# Altium schematic symbol library jlcpcb_2025_04_capacitors_extended_1812.schlib: 342 symbols (part 6 of 7)
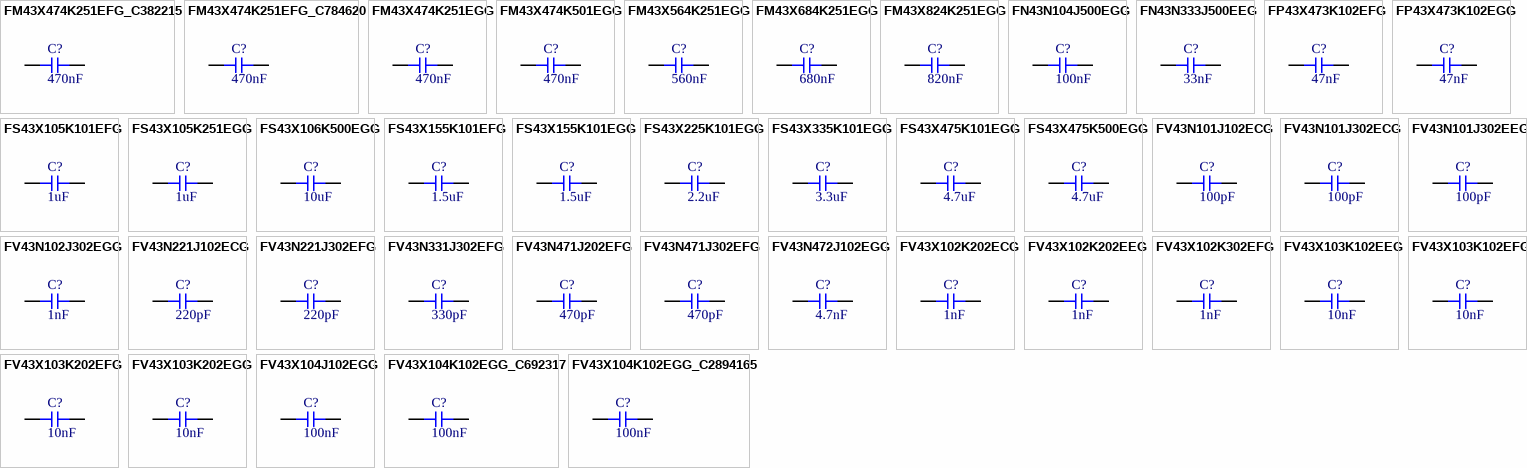
[diagram p13: symbols FM43X474K251EFG_C382215 to FV43X104K102EGG_C2894165]

## FS43X105K251EGG
designator C?  Capacitance: 1uF  (hidden comment: *)
Capacitor, Ceramic (MLCC), 1uF, ±10%, 250V, X7R, ±10%, SMD 1812; Manufacturer: PSA(Prosperity Dielectrics); Manufacturer Part Number: FS43X105K251EGG; Package Size: 1812; JLCPCB Basic Part: No; JLCPCB Part Number: C381468; Supplier 1: LCSC; Category: Capacitors - MLCC; Supplier Part Number 1: C381468; Tolerance: ±10%; Voltage Rating: 250V; Temperature Coefficient: X7R; RoHS: Yes; ComponentLink1Description: Datasheet; ComponentLink1URL: https://wmsc.lcsc.com/wmsc/upload/file/pdf/v2/lcsc/2304140030_PSA-Prosperity-Dielectrics-FS43X105K251EGG_C381468.pdf; ComponentLink2Description: JLCPCB Part URL; ComponentLink2URL: https://jlcpcb.com/partdetail/C381468; ComponentLink3Description: LCSC Part URL; ComponentLink3URL: https://lcsc.com/product-detail/Multilayer-Ceramic-Capacitors-MLCC---SMD-SMT_PSAProsperity-Dielectrics-PSAProsperity-Dielectrics-FS43X105K251EGG_C381468.html
footprint CAP-1812 (1812 (4532M) Capacitor)
pins: 1, 2

## FS43X106K500EGG
designator C?  Capacitance: 10uF  (hidden comment: *)
Capacitor, Ceramic (MLCC), 10uF, ±10%, 50V, ±10%, SMD 1812; Manufacturer: PSA(Prosperity Dielectrics); Manufacturer Part Number: FS43X106K500EGG; Package Size: 1812; JLCPCB Basic Part: No; JLCPCB Part Number: C1021609; Supplier 1: LCSC; Category: Capacitors - MLCC; Supplier Part Number 1: C1021609; Tolerance: ±10%; Voltage Rating: 50V; RoHS: Yes; ComponentLink1Description: Datasheet; ComponentLink1URL: https://wmsc.lcsc.com/wmsc/upload/file/pdf/v2/lcsc/2304140030_PSA-Prosperity-Dielectrics-FS43X106K500EGG_C1021609.pdf; ComponentLink2Description: JLCPCB Part URL; ComponentLink2URL: https://jlcpcb.com/partdetail/C1021609; ComponentLink3Description: LCSC Part URL; ComponentLink3URL: https://lcsc.com/product-detail/Multilayer-Ceramic-Capacitors-MLCC---SMD-SMT_PSAProsperity-Dielectrics-PSAProsperity-Dielectrics-FS43X106K500EGG_C1021609.html
footprint CAP-1812 (1812 (4532M) Capacitor)
pins: 1, 2

## FS43X155K101EFG
designator C?  Capacitance: 1.5uF  (hidden comment: *)
Capacitor, Ceramic (MLCC), 1.5uF, ±10%, 100V, X7R, ±10%, SMD 1812; Manufacturer: PSA(Prosperity Dielectrics); Manufacturer Part Number: FS43X155K101EFG; Package Size: 1812; JLCPCB Basic Part: No; JLCPCB Part Number: C146191; Supplier 1: LCSC; Category: Capacitors - MLCC; Supplier Part Number 1: C146191; Tolerance: ±10%; Voltage Rating: 100V; Temperature Coefficient: X7R; RoHS: Yes; ComponentLink1Description: Datasheet; ComponentLink1URL: https://wmsc.lcsc.com/wmsc/upload/file/pdf/v2/lcsc/2304140030_PSA-Prosperity-Dielectrics-FS43X155K101EFG_C146191.pdf; ComponentLink2Description: JLCPCB Part URL; ComponentLink2URL: https://jlcpcb.com/partdetail/C146191; ComponentLink3Description: LCSC Part URL; ComponentLink3URL: https://lcsc.com/product-detail/Multilayer-Ceramic-Capacitors-MLCC---SMD-SMT_PSAProsperity-Dielectrics-PSAProsperity-Dielectrics-FS43X155K101EFG_C146191.html
footprint CAP-1812 (1812 (4532M) Capacitor)
pins: 1, 2

## FS43X155K101EGG
designator C?  Capacitance: 1.5uF  (hidden comment: *)
Capacitor, Ceramic (MLCC), 1.5uF, ±10%, 100V, ±10%, SMD 1812; Manufacturer: PSA(Prosperity Dielectrics); Manufacturer Part Number: FS43X155K101EGG; Package Size: 1812; JLCPCB Basic Part: No; JLCPCB Part Number: C1021608; Supplier 1: LCSC; Category: Capacitors - MLCC; Supplier Part Number 1: C1021608; Tolerance: ±10%; Voltage Rating: 100V; RoHS: Yes; ComponentLink1Description: Datasheet; ComponentLink1URL: https://wmsc.lcsc.com/wmsc/upload/file/pdf/v2/lcsc/2304140030_PSA-Prosperity-Dielectrics-FS43X155K101EGG_C1021608.pdf; ComponentLink2Description: JLCPCB Part URL; ComponentLink2URL: https://jlcpcb.com/partdetail/C1021608; ComponentLink3Description: LCSC Part URL; ComponentLink3URL: https://lcsc.com/product-detail/Multilayer-Ceramic-Capacitors-MLCC---SMD-SMT_PSAProsperity-Dielectrics-PSAProsperity-Dielectrics-FS43X155K101EGG_C1021608.html
footprint CAP-1812 (1812 (4532M) Capacitor)
pins: 1, 2

## FS43X225K101EGG
designator C?  Capacitance: 2.2uF  (hidden comment: *)
Capacitor, Ceramic (MLCC), 2.2uF, ±10%, 100V, X7R, ±10%, SMD 1812; Manufacturer: PSA(Prosperity Dielectrics); Manufacturer Part Number: FS43X225K101EGG; Package Size: 1812; JLCPCB Basic Part: No; JLCPCB Part Number: C382210; Supplier 1: LCSC; Category: Capacitors - MLCC; Supplier Part Number 1: C382210; Tolerance: ±10%; Voltage Rating: 100V; Temperature Coefficient: X7R; RoHS: Yes; ComponentLink1Description: Datasheet; ComponentLink1URL: https://wmsc.lcsc.com/wmsc/upload/file/pdf/v2/lcsc/2304140030_PSA-Prosperity-Dielectrics-FS43X225K101EGG_C382210.pdf; ComponentLink2Description: JLCPCB Part URL; ComponentLink2URL: https://jlcpcb.com/partdetail/C382210; ComponentLink3Description: LCSC Part URL; ComponentLink3URL: https://lcsc.com/product-detail/Multilayer-Ceramic-Capacitors-MLCC---SMD-SMT_PSAProsperity-Dielectrics-PSAProsperity-Dielectrics-FS43X225K101EGG_C382210.html
footprint CAP-1812 (1812 (4532M) Capacitor)
pins: 1, 2

## FS43X335K101EGG
designator C?  Capacitance: 3.3uF  (hidden comment: *)
Capacitor, Ceramic (MLCC), 3.3uF, ±10%, 100V, ±10%, SMD 1812; Manufacturer: PSA(Prosperity Dielectrics); Manufacturer Part Number: FS43X335K101EGG; Package Size: 1812; JLCPCB Basic Part: No; JLCPCB Part Number: C1021607; Supplier 1: LCSC; Category: Capacitors - MLCC; Supplier Part Number 1: C1021607; Tolerance: ±10%; Voltage Rating: 100V; RoHS: Yes; ComponentLink1Description: Datasheet; ComponentLink1URL: https://wmsc.lcsc.com/wmsc/upload/file/pdf/v2/lcsc/2304140030_PSA-Prosperity-Dielectrics-FS43X335K101EGG_C1021607.pdf; ComponentLink2Description: JLCPCB Part URL; ComponentLink2URL: https://jlcpcb.com/partdetail/C1021607; ComponentLink3Description: LCSC Part URL; ComponentLink3URL: https://lcsc.com/product-detail/Multilayer-Ceramic-Capacitors-MLCC---SMD-SMT_PSAProsperity-Dielectrics-PSAProsperity-Dielectrics-FS43X335K101EGG_C1021607.html
footprint CAP-1812 (1812 (4532M) Capacitor)
pins: 1, 2

## FS43X475K101EGG
designator C?  Capacitance: 4.7uF  (hidden comment: *)
Capacitor, Ceramic (MLCC), 4.7uF, ±10%, 100V, X7R, ±10%, SMD 1812; Manufacturer: PSA(Prosperity Dielectrics); Manufacturer Part Number: FS43X475K101EGG; Package Size: 1812; JLCPCB Basic Part: No; JLCPCB Part Number: C784101; Supplier 1: LCSC; Category: Capacitors - MLCC; Supplier Part Number 1: C784101; Tolerance: ±10%; Voltage Rating: 100V; Temperature Coefficient: X7R; RoHS: Yes; ComponentLink1Description: Datasheet; ComponentLink1URL: https://wmsc.lcsc.com/wmsc/upload/file/pdf/v2/lcsc/2304140030_PSA-Prosperity-Dielectrics-FS43X475K101EGG_C784101.pdf; ComponentLink2Description: JLCPCB Part URL; ComponentLink2URL: https://jlcpcb.com/partdetail/C784101; ComponentLink3Description: LCSC Part URL; ComponentLink3URL: https://lcsc.com/product-detail/Multilayer-Ceramic-Capacitors-MLCC---SMD-SMT_PSAProsperity-Dielectrics-PSAProsperity-Dielectrics-FS43X475K101EGG_C784101.html
footprint CAP-1812 (1812 (4532M) Capacitor)
pins: 1, 2

## FS43X475K500EGG
designator C?  Capacitance: 4.7uF  (hidden comment: *)
Capacitor, Ceramic (MLCC), 4.7uF, 50V, X7R, SMD 1812; Manufacturer: PSA(Prosperity Dielectrics); Manufacturer Part Number: FS43X475K500EGG; Package Size: 1812; JLCPCB Basic Part: No; JLCPCB Part Number: C2915696; Supplier 1: LCSC; Category: Capacitors - MLCC; Supplier Part Number 1: C2915696; Voltage Rating: 50V; Temperature Coefficient: X7R; RoHS: Yes; ComponentLink1Description: Datasheet; ComponentLink1URL: https://wmsc.lcsc.com/wmsc/upload/file/pdf/v2/lcsc/2111161830_PSA-Prosperity-Dielectrics-FS43X475K500EGG_C2915696.pdf; ComponentLink2Description: JLCPCB Part URL; ComponentLink2URL: https://jlcpcb.com/partdetail/C2915696; ComponentLink3Description: LCSC Part URL; ComponentLink3URL: https://lcsc.com/product-detail/Multilayer-Ceramic-Capacitors-MLCC---SMD-SMT_PSAProsperity-Dielectrics-PSAProsperity-Dielectrics-FS43X475K500EGG_C2915696.html
footprint CAP-1812 (1812 (4532M) Capacitor)
pins: 1, 2

## FV43N101J102ECG
designator C?  Capacitance: 100pF  (hidden comment: *)
Capacitor, Ceramic (MLCC), 100pF, 1kV, C0G, SMD 1812; Manufacturer: PSA(Prosperity Dielectrics); Manufacturer Part Number: FV43N101J102ECG; Package Size: 1812; JLCPCB Basic Part: No; JLCPCB Part Number: C2847456; Supplier 1: LCSC; Category: Capacitors - MLCC; Supplier Part Number 1: C2847456; Voltage Rating: 1kV; Temperature Coefficient: C0G; RoHS: Yes; ComponentLink1Description: Datasheet; ComponentLink1URL: https://wmsc.lcsc.com/wmsc/upload/file/pdf/v2/lcsc/2108142230_PSA-Prosperity-Dielectrics-FV43N101J102ECG_C2847456.pdf; ComponentLink2Description: JLCPCB Part URL; ComponentLink2URL: https://jlcpcb.com/partdetail/C2847456; ComponentLink3Description: LCSC Part URL; ComponentLink3URL: https://lcsc.com/product-detail/Multilayer-Ceramic-Capacitors-MLCC---SMD-SMT_PSAProsperity-Dielectrics-PSAProsperity-Dielectrics-FV43N101J102ECG_C2847456.html
footprint CAP-1812 (1812 (4532M) Capacitor)
pins: 1, 2

## FV43N101J302ECG
designator C?  Capacitance: 100pF  (hidden comment: *)
Capacitor, Ceramic (MLCC), 100pF, 3kV, SMD 1812; Manufacturer: PSA(Prosperity Dielectrics); Manufacturer Part Number: FV43N101J302ECG; Package Size: 1812; JLCPCB Basic Part: No; JLCPCB Part Number: C2843410; Supplier 1: LCSC; Category: Capacitors - MLCC; Supplier Part Number 1: C2843410; Voltage Rating: 3kV; RoHS: Yes; ComponentLink1Description: Datasheet; ComponentLink1URL: https://wmsc.lcsc.com/wmsc/upload/file/pdf/v2/lcsc/2108072030_PSA-Prosperity-Dielectrics-FV43N101J302ECG_C2843410.pdf; ComponentLink2Description: JLCPCB Part URL; ComponentLink2URL: https://jlcpcb.com/partdetail/C2843410; ComponentLink3Description: LCSC Part URL; ComponentLink3URL: https://lcsc.com/product-detail/Multilayer-Ceramic-Capacitors-MLCC---SMD-SMT_PSAProsperity-Dielectrics-PSAProsperity-Dielectrics-FV43N101J302ECG_C2843410.html
footprint CAP-1812 (1812 (4532M) Capacitor)
pins: 1, 2

## FV43N101J302EEG
designator C?  Capacitance: 100pF  (hidden comment: *)
Capacitor, Ceramic (MLCC), 100pF, ±5%, 3kV, ±5%, SMD 1812; Manufacturer: PSA(Prosperity Dielectrics); Manufacturer Part Number: FV43N101J302EEG; Package Size: 1812; JLCPCB Basic Part: No; JLCPCB Part Number: C784412; Supplier 1: LCSC; Category: Capacitors - MLCC; Supplier Part Number 1: C784412; Tolerance: ±5%; Voltage Rating: 3kV; RoHS: Yes; ComponentLink1Description: Datasheet; ComponentLink1URL: https://wmsc.lcsc.com/wmsc/upload/file/pdf/v2/lcsc/2304140030_PSA-Prosperity-Dielectrics-FV43N101J302EEG_C784412.pdf; ComponentLink2Description: JLCPCB Part URL; ComponentLink2URL: https://jlcpcb.com/partdetail/C784412; ComponentLink3Description: LCSC Part URL; ComponentLink3URL: https://lcsc.com/product-detail/Multilayer-Ceramic-Capacitors-MLCC---SMD-SMT_PSAProsperity-Dielectrics-PSAProsperity-Dielectrics-FV43N101J302EEG_C784412.html
footprint CAP-1812 (1812 (4532M) Capacitor)
pins: 1, 2

## FV43N102J302EGG
designator C?  Capacitance: 1nF  (hidden comment: *)
Capacitor, Ceramic (MLCC), 1nF, ±5%, 3kV, C0G, ±5%, SMD 1812; Manufacturer: PSA(Prosperity Dielectrics); Manufacturer Part Number: FV43N102J302EGG; Package Size: 1812; JLCPCB Basic Part: No; JLCPCB Part Number: C692320; Supplier 1: LCSC; Category: Capacitors - MLCC; Supplier Part Number 1: C692320; Tolerance: ±5%; Voltage Rating: 3kV; Temperature Coefficient: C0G; RoHS: Yes; ComponentLink1Description: Datasheet; ComponentLink1URL: https://wmsc.lcsc.com/wmsc/upload/file/pdf/v2/lcsc/2304140030_PSA-Prosperity-Dielectrics-FV43N102J302EGG_C692320.pdf; ComponentLink2Description: JLCPCB Part URL; ComponentLink2URL: https://jlcpcb.com/partdetail/C692320; ComponentLink3Description: LCSC Part URL; ComponentLink3URL: https://lcsc.com/product-detail/Multilayer-Ceramic-Capacitors-MLCC---SMD-SMT_PSAProsperity-Dielectrics-PSAProsperity-Dielectrics-FV43N102J302EGG_C692320.html
footprint CAP-1812 (1812 (4532M) Capacitor)
pins: 1, 2

## FV43N221J102ECG
designator C?  Capacitance: 220pF  (hidden comment: *)
Capacitor, Ceramic (MLCC), 220pF, ±5%, 1kV, C0G, ±5%, SMD 1812; Manufacturer: PSA(Prosperity Dielectrics); Manufacturer Part Number: FV43N221J102ECG; Package Size: 1812; JLCPCB Basic Part: No; JLCPCB Part Number: C2905791; Supplier 1: LCSC; Category: Capacitors - MLCC; Supplier Part Number 1: C2905791; Tolerance: ±5%; Voltage Rating: 1kV; Temperature Coefficient: C0G; RoHS: Yes; ComponentLink1Description: Datasheet; ComponentLink1URL: https://wmsc.lcsc.com/wmsc/upload/file/pdf/v2/lcsc/2110190930_PSA-Prosperity-Dielectrics-FV43N221J102ECG_C2905791.pdf; ComponentLink2Description: JLCPCB Part URL; ComponentLink2URL: https://jlcpcb.com/partdetail/C2905791; ComponentLink3Description: LCSC Part URL; ComponentLink3URL: https://lcsc.com/product-detail/Multilayer-Ceramic-Capacitors-MLCC---SMD-SMT_PSAProsperity-Dielectrics-PSAProsperity-Dielectrics-FV43N221J102ECG_C2905791.html
footprint CAP-1812 (1812 (4532M) Capacitor)
pins: 1, 2

## FV43N221J302EFG
designator C?  Capacitance: 220pF  (hidden comment: *)
Capacitor, Ceramic (MLCC), 220pF, ±5%, 3kV, ±5%, SMD 1812; Manufacturer: PSA(Prosperity Dielectrics); Manufacturer Part Number: FV43N221J302EFG; Package Size: 1812; JLCPCB Basic Part: No; JLCPCB Part Number: C1884493; Supplier 1: LCSC; Category: Capacitors - MLCC; Supplier Part Number 1: C1884493; Tolerance: ±5%; Voltage Rating: 3kV; RoHS: Yes; ComponentLink1Description: Datasheet; ComponentLink1URL: https://wmsc.lcsc.com/wmsc/upload/file/pdf/v2/lcsc/2304140030_PSA-Prosperity-Dielectrics-FV43N221J302EFG_C1884493.pdf; ComponentLink2Description: JLCPCB Part URL; ComponentLink2URL: https://jlcpcb.com/partdetail/C1884493; ComponentLink3Description: LCSC Part URL; ComponentLink3URL: https://lcsc.com/product-detail/Multilayer-Ceramic-Capacitors-MLCC---SMD-SMT_PSAProsperity-Dielectrics-PSAProsperity-Dielectrics-FV43N221J302EFG_C1884493.html
footprint CAP-1812 (1812 (4532M) Capacitor)
pins: 1, 2

## FV43N331J302EFG
designator C?  Capacitance: 330pF  (hidden comment: *)
Capacitor, Ceramic (MLCC), 330pF, ±5%, 3kV, C0G, ±5%, SMD 1812; Manufacturer: PSA(Prosperity Dielectrics); Manufacturer Part Number: FV43N331J302EFG; Package Size: 1812; JLCPCB Basic Part: No; JLCPCB Part Number: C2915734; Supplier 1: LCSC; Category: Capacitors - MLCC; Supplier Part Number 1: C2915734; Tolerance: ±5%; Voltage Rating: 3kV; Temperature Coefficient: C0G; RoHS: Yes; ComponentLink1Description: Datasheet; ComponentLink1URL: https://wmsc.lcsc.com/wmsc/upload/file/pdf/v2/lcsc/2111161830_PSA-Prosperity-Dielectrics-FV43N331J302EFG_C2915734.pdf; ComponentLink2Description: JLCPCB Part URL; ComponentLink2URL: https://jlcpcb.com/partdetail/C2915734; ComponentLink3Description: LCSC Part URL; ComponentLink3URL: https://lcsc.com/product-detail/Multilayer-Ceramic-Capacitors-MLCC---SMD-SMT_PSAProsperity-Dielectrics-PSAProsperity-Dielectrics-FV43N331J302EFG_C2915734.html
footprint CAP-1812 (1812 (4532M) Capacitor)
pins: 1, 2

## FV43N471J202EFG
designator C?  Capacitance: 470pF  (hidden comment: *)
Capacitor, Ceramic (MLCC), 470pF, ±5%, 2kV, C0G, ±5%, SMD 1812; Manufacturer: PSA(Prosperity Dielectrics); Manufacturer Part Number: FV43N471J202EFG; Package Size: 1812; JLCPCB Basic Part: No; JLCPCB Part Number: C2915735; Supplier 1: LCSC; Category: Capacitors - MLCC; Supplier Part Number 1: C2915735; Tolerance: ±5%; Voltage Rating: 2kV; Temperature Coefficient: C0G; RoHS: Yes; ComponentLink1Description: Datasheet; ComponentLink1URL: https://wmsc.lcsc.com/wmsc/upload/file/pdf/v2/lcsc/2111161830_PSA-Prosperity-Dielectrics-FV43N471J202EFG_C2915735.pdf; ComponentLink2Description: JLCPCB Part URL; ComponentLink2URL: https://jlcpcb.com/partdetail/C2915735; ComponentLink3Description: LCSC Part URL; ComponentLink3URL: https://lcsc.com/product-detail/Multilayer-Ceramic-Capacitors-MLCC---SMD-SMT_PSAProsperity-Dielectrics-PSAProsperity-Dielectrics-FV43N471J202EFG_C2915735.html
footprint CAP-1812 (1812 (4532M) Capacitor)
pins: 1, 2

## FV43N471J302EFG
designator C?  Capacitance: 470pF  (hidden comment: *)
Capacitor, Ceramic (MLCC), 470pF, ±5%, 3kV, NP0, ±5%, SMD 1812; Manufacturer: PSA(Prosperity Dielectrics); Manufacturer Part Number: FV43N471J302EFG; Package Size: 1812; JLCPCB Basic Part: No; JLCPCB Part Number: C692319; Supplier 1: LCSC; Category: Capacitors - MLCC; Supplier Part Number 1: C692319; Tolerance: ±5%; Voltage Rating: 3kV; Temperature Coefficient: NP0; RoHS: Yes; ComponentLink1Description: Datasheet; ComponentLink1URL: https://wmsc.lcsc.com/wmsc/upload/file/pdf/v2/lcsc/2304140030_PSA-Prosperity-Dielectrics-FV43N471J302EFG_C692319.pdf; ComponentLink2Description: JLCPCB Part URL; ComponentLink2URL: https://jlcpcb.com/partdetail/C692319; ComponentLink3Description: LCSC Part URL; ComponentLink3URL: https://lcsc.com/product-detail/Multilayer-Ceramic-Capacitors-MLCC---SMD-SMT_PSAProsperity-Dielectrics-PSAProsperity-Dielectrics-FV43N471J302EFG_C692319.html
footprint CAP-1812 (1812 (4532M) Capacitor)
pins: 1, 2

## FV43N472J102EGG
designator C?  Capacitance: 4.7nF  (hidden comment: *)
Capacitor, Ceramic (MLCC), 4.7nF, ±5%, 1kV, NP0, ±5%, SMD 1812; Manufacturer: PSA(Prosperity Dielectrics); Manufacturer Part Number: FV43N472J102EGG; Package Size: 1812; JLCPCB Basic Part: No; JLCPCB Part Number: C692321; Supplier 1: LCSC; Category: Capacitors - MLCC; Supplier Part Number 1: C692321; Tolerance: ±5%; Voltage Rating: 1kV; Temperature Coefficient: NP0; RoHS: Yes; ComponentLink1Description: Datasheet; ComponentLink1URL: https://wmsc.lcsc.com/wmsc/upload/file/pdf/v2/lcsc/2304140030_PSA-Prosperity-Dielectrics-FV43N472J102EGG_C692321.pdf; ComponentLink2Description: JLCPCB Part URL; ComponentLink2URL: https://jlcpcb.com/partdetail/C692321; ComponentLink3Description: LCSC Part URL; ComponentLink3URL: https://lcsc.com/product-detail/Multilayer-Ceramic-Capacitors-MLCC---SMD-SMT_PSAProsperity-Dielectrics-PSAProsperity-Dielectrics-FV43N472J102EGG_C692321.html
footprint CAP-1812 (1812 (4532M) Capacitor)
pins: 1, 2

## FV43X102K202ECG
designator C?  Capacitance: 1nF  (hidden comment: *)
Capacitor, Ceramic (MLCC), 1nF, 2kV, SMD 1812; Manufacturer: PSA(Prosperity Dielectrics); Manufacturer Part Number: FV43X102K202ECG; Package Size: 1812; JLCPCB Basic Part: No; JLCPCB Part Number: C2843412; Supplier 1: LCSC; Category: Capacitors - MLCC; Supplier Part Number 1: C2843412; Voltage Rating: 2kV; RoHS: Yes; ComponentLink1Description: Datasheet; ComponentLink1URL: https://wmsc.lcsc.com/wmsc/upload/file/pdf/v2/lcsc/2108072030_PSA-Prosperity-Dielectrics-FV43X102K202ECG_C2843412.pdf; ComponentLink2Description: JLCPCB Part URL; ComponentLink2URL: https://jlcpcb.com/partdetail/C2843412; ComponentLink3Description: LCSC Part URL; ComponentLink3URL: https://lcsc.com/product-detail/Multilayer-Ceramic-Capacitors-MLCC---SMD-SMT_PSAProsperity-Dielectrics-PSAProsperity-Dielectrics-FV43X102K202ECG_C2843412.html
footprint CAP-1812 (1812 (4532M) Capacitor)
pins: 1, 2

## FV43X102K202EEG
designator C?  Capacitance: 1nF  (hidden comment: *)
Capacitor, Ceramic (MLCC), 1nF, ±10%, 2kV, X7R, ±10%, SMD 1812; Manufacturer: PSA(Prosperity Dielectrics); Manufacturer Part Number: FV43X102K202EEG; Package Size: 1812; JLCPCB Basic Part: No; JLCPCB Part Number: C571507; Supplier 1: LCSC; Category: Capacitors - MLCC; Supplier Part Number 1: C571507; Tolerance: ±10%; Voltage Rating: 2kV; Temperature Coefficient: X7R; RoHS: Yes; ComponentLink1Description: Datasheet; ComponentLink1URL: https://wmsc.lcsc.com/wmsc/upload/file/pdf/v2/lcsc/2304140030_PSA-Prosperity-Dielectrics-FV43X102K202EEG_C571507.pdf; ComponentLink2Description: JLCPCB Part URL; ComponentLink2URL: https://jlcpcb.com/partdetail/C571507; ComponentLink3Description: LCSC Part URL; ComponentLink3URL: https://lcsc.com/product-detail/Multilayer-Ceramic-Capacitors-MLCC---SMD-SMT_PSAProsperity-Dielectrics-PSAProsperity-Dielectrics-FV43X102K202EEG_C571507.html
footprint CAP-1812 (1812 (4532M) Capacitor)
pins: 1, 2

## FV43X102K302EFG
designator C?  Capacitance: 1nF  (hidden comment: *)
Capacitor, Ceramic (MLCC), 1nF, ±10%, 3kV, X7R, ±10%, SMD 1812; Manufacturer: PSA(Prosperity Dielectrics); Manufacturer Part Number: FV43X102K302EFG; Package Size: 1812; JLCPCB Basic Part: No; JLCPCB Part Number: C692296; Supplier 1: LCSC; Category: Capacitors - MLCC; Supplier Part Number 1: C692296; Tolerance: ±10%; Voltage Rating: 3kV; Temperature Coefficient: X7R; RoHS: Yes; ComponentLink1Description: Datasheet; ComponentLink1URL: https://wmsc.lcsc.com/wmsc/upload/file/pdf/v2/lcsc/2304140030_PSA-Prosperity-Dielectrics-FV43X102K302EFG_C692296.pdf; ComponentLink2Description: JLCPCB Part URL; ComponentLink2URL: https://jlcpcb.com/partdetail/C692296; ComponentLink3Description: LCSC Part URL; ComponentLink3URL: https://lcsc.com/product-detail/Multilayer-Ceramic-Capacitors-MLCC---SMD-SMT_PSAProsperity-Dielectrics-PSAProsperity-Dielectrics-FV43X102K302EFG_C692296.html
footprint CAP-1812 (1812 (4532M) Capacitor)
pins: 1, 2

## FV43X103K102EEG
designator C?  Capacitance: 10nF  (hidden comment: *)
Capacitor, Ceramic (MLCC), 10nF, ±10%, 1kV, ±10%, SMD 1812; Manufacturer: PSA(Prosperity Dielectrics); Manufacturer Part Number: FV43X103K102EEG; Package Size: 1812; JLCPCB Basic Part: No; JLCPCB Part Number: C1884494; Supplier 1: LCSC; Category: Capacitors - MLCC; Supplier Part Number 1: C1884494; Tolerance: ±10%; Voltage Rating: 1kV; RoHS: Yes; ComponentLink1Description: Datasheet; ComponentLink1URL: https://wmsc.lcsc.com/wmsc/upload/file/pdf/v2/lcsc/2201280500_PSA-Prosperity-Dielectrics-FV43X103K102EEG_C1884494.pdf; ComponentLink2Description: JLCPCB Part URL; ComponentLink2URL: https://jlcpcb.com/partdetail/C1884494; ComponentLink3Description: LCSC Part URL; ComponentLink3URL: https://lcsc.com/product-detail/Multilayer-Ceramic-Capacitors-MLCC---SMD-SMT_PSAProsperity-Dielectrics-PSAProsperity-Dielectrics-FV43X103K102EEG_C1884494.html
footprint CAP-1812 (1812 (4532M) Capacitor)
pins: 1, 2

## FV43X103K102EFG
designator C?  Capacitance: 10nF  (hidden comment: *)
Capacitor, Ceramic (MLCC), 10nF, ±10%, 1kV, X7R, ±10%, SMD 1812; Manufacturer: PSA(Prosperity Dielectrics); Manufacturer Part Number: FV43X103K102EFG; Package Size: 1812; JLCPCB Basic Part: No; JLCPCB Part Number: C394164; Supplier 1: LCSC; Category: Capacitors - MLCC; Supplier Part Number 1: C394164; Tolerance: ±10%; Voltage Rating: 1kV; Temperature Coefficient: X7R; RoHS: Yes; ComponentLink1Description: Datasheet; ComponentLink1URL: https://wmsc.lcsc.com/wmsc/upload/file/pdf/v2/lcsc/2304140030_PSA-Prosperity-Dielectrics-FV43X103K102EFG_C394164.pdf; ComponentLink2Description: JLCPCB Part URL; ComponentLink2URL: https://jlcpcb.com/partdetail/C394164; ComponentLink3Description: LCSC Part URL; ComponentLink3URL: https://lcsc.com/product-detail/Multilayer-Ceramic-Capacitors-MLCC---SMD-SMT_PSAProsperity-Dielectrics-PSAProsperity-Dielectrics-FV43X103K102EFG_C394164.html
footprint CAP-1812 (1812 (4532M) Capacitor)
pins: 1, 2

## FV43X103K202EFG
designator C?  Capacitance: 10nF  (hidden comment: *)
Capacitor, Ceramic (MLCC), 10nF, ±10%, 2kV, ±10%, SMD 1812; Manufacturer: PSA(Prosperity Dielectrics); Manufacturer Part Number: FV43X103K202EFG; Package Size: 1812; JLCPCB Basic Part: No; JLCPCB Part Number: C2843413; Supplier 1: LCSC; Category: Capacitors - MLCC; Supplier Part Number 1: C2843413; Tolerance: ±10%; Voltage Rating: 2kV; RoHS: Yes; ComponentLink1Description: Datasheet; ComponentLink1URL: https://wmsc.lcsc.com/wmsc/upload/file/pdf/v2/lcsc/2108072030_PSA-Prosperity-Dielectrics-FV43X103K202EFG_C2843413.pdf; ComponentLink2Description: JLCPCB Part URL; ComponentLink2URL: https://jlcpcb.com/partdetail/C2843413; ComponentLink3Description: LCSC Part URL; ComponentLink3URL: https://lcsc.com/product-detail/Multilayer-Ceramic-Capacitors-MLCC---SMD-SMT_PSAProsperity-Dielectrics-PSAProsperity-Dielectrics-FV43X103K202EFG_C2843413.html
footprint CAP-1812 (1812 (4532M) Capacitor)
pins: 1, 2

## FV43X103K202EGG
designator C?  Capacitance: 10nF  (hidden comment: *)
Capacitor, Ceramic (MLCC), 10nF, ±10%, 2kV, X7R, ±10%, SMD 1812; Manufacturer: PSA(Prosperity Dielectrics); Manufacturer Part Number: FV43X103K202EGG; Package Size: 1812; JLCPCB Basic Part: No; JLCPCB Part Number: C394165; Supplier 1: LCSC; Category: Capacitors - MLCC; Supplier Part Number 1: C394165; Tolerance: ±10%; Voltage Rating: 2kV; Temperature Coefficient: X7R; RoHS: Yes; ComponentLink1Description: Datasheet; ComponentLink1URL: https://wmsc.lcsc.com/wmsc/upload/file/pdf/v2/lcsc/1912111437_PSA-Prosperity-Dielectrics-FV43X103K202EGG_C394165.pdf; ComponentLink2Description: JLCPCB Part URL; ComponentLink2URL: https://jlcpcb.com/partdetail/C394165; ComponentLink3Description: LCSC Part URL; ComponentLink3URL: https://lcsc.com/product-detail/Multilayer-Ceramic-Capacitors-MLCC---SMD-SMT_PSAProsperity-Dielectrics-PSAProsperity-Dielectrics-FV43X103K202EGG_C394165.html
footprint CAP-1812 (1812 (4532M) Capacitor)
pins: 1, 2

## FV43X104J102EGG
designator C?  Capacitance: 100nF  (hidden comment: *)
Capacitor, Ceramic (MLCC), 100nF, ±5%, 1kV, X7R, ±5%, SMD 1812; Manufacturer: PSA(Prosperity Dielectrics); Manufacturer Part Number: FV43X104J102EGG; Package Size: 1812; JLCPCB Basic Part: No; JLCPCB Part Number: C2908848; Supplier 1: LCSC; Category: Capacitors - MLCC; Supplier Part Number 1: C2908848; Tolerance: ±5%; Voltage Rating: 1kV; Temperature Coefficient: X7R; RoHS: Yes; ComponentLink1Description: Datasheet; ComponentLink1URL: https://wmsc.lcsc.com/wmsc/upload/file/pdf/v2/lcsc/2112031830_PSA-Prosperity-Dielectrics-FV43X104J102EGG_C2908848.pdf; ComponentLink2Description: JLCPCB Part URL; ComponentLink2URL: https://jlcpcb.com/partdetail/C2908848; ComponentLink3Description: LCSC Part URL; ComponentLink3URL: https://lcsc.com/product-detail/Multilayer-Ceramic-Capacitors-MLCC---SMD-SMT_PSAProsperity-Dielectrics-PSAProsperity-Dielectrics-FV43X104J102EGG_C2908848.html
footprint CAP-1812 (1812 (4532M) Capacitor)
pins: 1, 2

## FV43X104K102EGG_C692317
designator C?  Capacitance: 100nF  (hidden comment: *)
Capacitor, Ceramic (MLCC), 100nF, ±10%, 1kV, X7R, ±10%, SMD 1812; Manufacturer: PSA(Prosperity Dielectrics); Manufacturer Part Number: FV43X104K102EGG; Package Size: 1812; JLCPCB Basic Part: No; JLCPCB Part Number: C692317; Supplier 1: LCSC; Category: Capacitors - MLCC; Supplier Part Number 1: C692317; Tolerance: ±10%; Voltage Rating: 1kV; Temperature Coefficient: X7R; RoHS: Yes; ComponentLink1Description: Datasheet; ComponentLink1URL: https://wmsc.lcsc.com/wmsc/upload/file/pdf/v2/lcsc/2304140030_PSA-Prosperity-Dielectrics-FV43X104K102EGG_C692317.pdf; ComponentLink2Description: JLCPCB Part URL; ComponentLink2URL: https://jlcpcb.com/partdetail/C692317; ComponentLink3Description: LCSC Part URL; ComponentLink3URL: https://lcsc.com/product-detail/Multilayer-Ceramic-Capacitors-MLCC---SMD-SMT_PSAProsperity-Dielectrics-PSAProsperity-Dielectrics-FV43X104K102EGG_C692317.html
footprint CAP-1812 (1812 (4532M) Capacitor)
pins: 1, 2

## FV43X104K102EGG_C2894165
designator C?  Capacitance: 100nF  (hidden comment: *)
Capacitor, Ceramic (MLCC), 100nF, 1kV, X7R, SMD 1812; Manufacturer: PSA(Prosperity Dielectrics); Manufacturer Part Number: FV43X104K102EGG; Package Size: 1812; JLCPCB Basic Part: No; JLCPCB Part Number: C2894165; Supplier 1: LCSC; Category: Capacitors - MLCC; Supplier Part Number 1: C2894165; Voltage Rating: 1kV; Temperature Coefficient: X7R; RoHS: Yes; ComponentLink1Description: Datasheet; ComponentLink1URL: https://wmsc.lcsc.com/wmsc/upload/file/pdf/v2/lcsc/2109101130_PSA-Prosperity-Dielectrics-FV43X104K102EGG_C2894165.pdf; ComponentLink2Description: JLCPCB Part URL; ComponentLink2URL: https://jlcpcb.com/partdetail/C2894165; ComponentLink3Description: LCSC Part URL; ComponentLink3URL: https://lcsc.com/product-detail/Multilayer-Ceramic-Capacitors-MLCC---SMD-SMT_PSAProsperity-Dielectrics-PSAProsperity-Dielectrics-FV43X104K102EGG_C2894165.html
footprint CAP-1812 (1812 (4532M) Capacitor)
pins: 1, 2

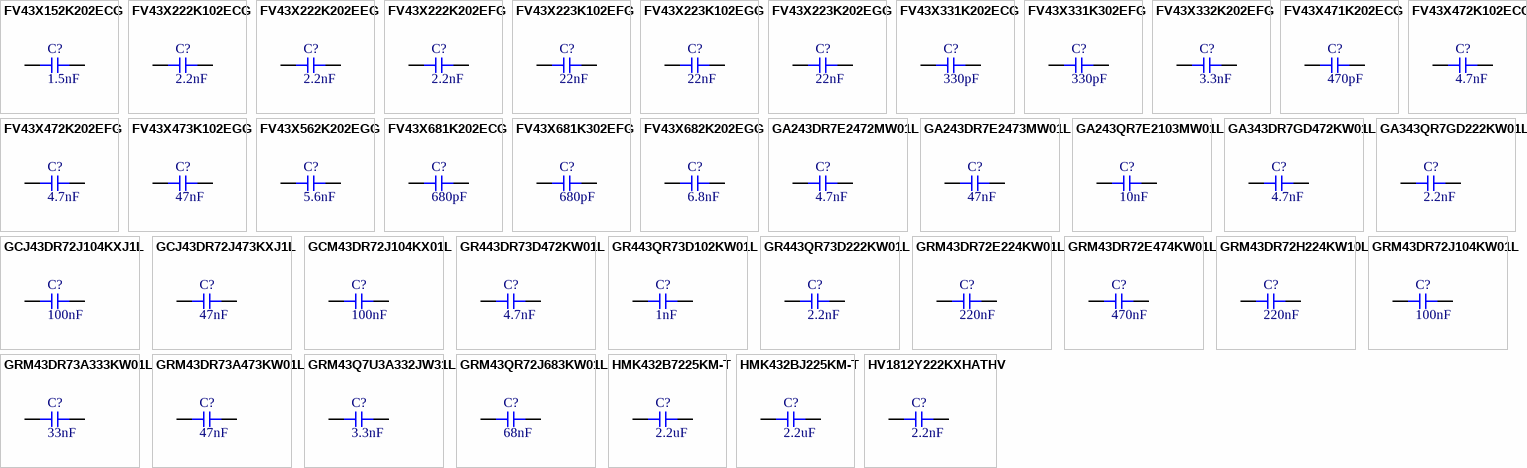
[diagram p7: symbols FV43X152K202ECG to HV1812Y222KXHATHV]

## FV43X152K202ECG
designator C?  Capacitance: 1.5nF  (hidden comment: *)
Capacitor, Ceramic (MLCC), 1.5nF, ±10%, 2kV, ±10%, SMD 1812; Manufacturer: PSA(Prosperity Dielectrics); Manufacturer Part Number: FV43X152K202ECG; Package Size: 1812; JLCPCB Basic Part: No; JLCPCB Part Number: C692297; Supplier 1: LCSC; Category: Capacitors - MLCC; Supplier Part Number 1: C692297; Tolerance: ±10%; Voltage Rating: 2kV; RoHS: Yes; ComponentLink1Description: Datasheet; ComponentLink1URL: https://wmsc.lcsc.com/wmsc/upload/file/pdf/v2/lcsc/2304140030_PSA-Prosperity-Dielectrics-FV43X152K202ECG_C692297.pdf; ComponentLink2Description: JLCPCB Part URL; ComponentLink2URL: https://jlcpcb.com/partdetail/C692297; ComponentLink3Description: LCSC Part URL; ComponentLink3URL: https://lcsc.com/product-detail/Multilayer-Ceramic-Capacitors-MLCC---SMD-SMT_PSAProsperity-Dielectrics-PSAProsperity-Dielectrics-FV43X152K202ECG_C692297.html
footprint CAP-1812 (1812 (4532M) Capacitor)
pins: 1, 2

## FV43X222K102ECG
designator C?  Capacitance: 2.2nF  (hidden comment: *)
Capacitor, Ceramic (MLCC), 2.2nF, ±10%, 1kV, X7R, ±10%, SMD 1812; Manufacturer: PSA(Prosperity Dielectrics); Manufacturer Part Number: FV43X222K102ECG; Package Size: 1812; JLCPCB Basic Part: No; JLCPCB Part Number: C692298; Supplier 1: LCSC; Category: Capacitors - MLCC; Supplier Part Number 1: C692298; Tolerance: ±10%; Voltage Rating: 1kV; Temperature Coefficient: X7R; RoHS: Yes; ComponentLink1Description: Datasheet; ComponentLink1URL: https://wmsc.lcsc.com/wmsc/upload/file/pdf/v2/lcsc/2304140030_PSA-Prosperity-Dielectrics-FV43X222K102ECG_C692298.pdf; ComponentLink2Description: JLCPCB Part URL; ComponentLink2URL: https://jlcpcb.com/partdetail/C692298; ComponentLink3Description: LCSC Part URL; ComponentLink3URL: https://lcsc.com/product-detail/Multilayer-Ceramic-Capacitors-MLCC---SMD-SMT_PSAProsperity-Dielectrics-PSAProsperity-Dielectrics-FV43X222K102ECG_C692298.html
footprint CAP-1812 (1812 (4532M) Capacitor)
pins: 1, 2

## FV43X222K202EEG
designator C?  Capacitance: 2.2nF  (hidden comment: *)
Capacitor, Ceramic (MLCC), 2.2nF, ±10%, 2kV, X7R, ±10%, SMD 1812; Manufacturer: PSA(Prosperity Dielectrics); Manufacturer Part Number: FV43X222K202EEG; Package Size: 1812; JLCPCB Basic Part: No; JLCPCB Part Number: C692299; Supplier 1: LCSC; Category: Capacitors - MLCC; Supplier Part Number 1: C692299; Tolerance: ±10%; Voltage Rating: 2kV; Temperature Coefficient: X7R; RoHS: Yes; ComponentLink1Description: Datasheet; ComponentLink1URL: https://wmsc.lcsc.com/wmsc/upload/file/pdf/v2/lcsc/2304140030_PSA-Prosperity-Dielectrics-FV43X222K202EEG_C692299.pdf; ComponentLink2Description: JLCPCB Part URL; ComponentLink2URL: https://jlcpcb.com/partdetail/C692299; ComponentLink3Description: LCSC Part URL; ComponentLink3URL: https://lcsc.com/product-detail/Multilayer-Ceramic-Capacitors-MLCC---SMD-SMT_PSAProsperity-Dielectrics-PSAProsperity-Dielectrics-FV43X222K202EEG_C692299.html
footprint CAP-1812 (1812 (4532M) Capacitor)
pins: 1, 2

## FV43X222K202EFG
designator C?  Capacitance: 2.2nF  (hidden comment: *)
Capacitor, Ceramic (MLCC), 2.2nF, ±10%, 2kV, X7R, ±10%, SMD 1812; Manufacturer: PSA(Prosperity Dielectrics); Manufacturer Part Number: FV43X222K202EFG; Package Size: 1812; JLCPCB Basic Part: No; JLCPCB Part Number: C525363; Supplier 1: LCSC; Category: Capacitors - MLCC; Supplier Part Number 1: C525363; Tolerance: ±10%; Voltage Rating: 2kV; Temperature Coefficient: X7R; RoHS: Yes; ComponentLink1Description: Datasheet; ComponentLink1URL: https://wmsc.lcsc.com/wmsc/upload/file/pdf/v2/lcsc/2304140030_PSA-Prosperity-Dielectrics-FV43X222K202EFG_C525363.pdf; ComponentLink2Description: JLCPCB Part URL; ComponentLink2URL: https://jlcpcb.com/partdetail/C525363; ComponentLink3Description: LCSC Part URL; ComponentLink3URL: https://lcsc.com/product-detail/Multilayer-Ceramic-Capacitors-MLCC---SMD-SMT_PSAProsperity-Dielectrics-PSAProsperity-Dielectrics-FV43X222K202EFG_C525363.html
footprint CAP-1812 (1812 (4532M) Capacitor)
pins: 1, 2

## FV43X223K102EFG
designator C?  Capacitance: 22nF  (hidden comment: *)
Capacitor, Ceramic (MLCC), 22nF, 1kV, X7R, SMD 1812; Manufacturer: PSA(Prosperity Dielectrics); Manufacturer Part Number: FV43X223K102EFG; Package Size: 1812; JLCPCB Basic Part: No; JLCPCB Part Number: C2847429; Supplier 1: LCSC; Category: Capacitors - MLCC; Supplier Part Number 1: C2847429; Voltage Rating: 1kV; Temperature Coefficient: X7R; RoHS: Yes; ComponentLink1Description: Datasheet; ComponentLink1URL: https://wmsc.lcsc.com/wmsc/upload/file/pdf/v2/lcsc/2108142130_PSA-Prosperity-Dielectrics-FV43X223K102EFG_C2847429.pdf; ComponentLink2Description: JLCPCB Part URL; ComponentLink2URL: https://jlcpcb.com/partdetail/C2847429; ComponentLink3Description: LCSC Part URL; ComponentLink3URL: https://lcsc.com/product-detail/Multilayer-Ceramic-Capacitors-MLCC---SMD-SMT_PSAProsperity-Dielectrics-PSAProsperity-Dielectrics-FV43X223K102EFG_C2847429.html
footprint CAP-1812 (1812 (4532M) Capacitor)
pins: 1, 2

## FV43X223K102EGG
designator C?  Capacitance: 22nF  (hidden comment: *)
Capacitor, Ceramic (MLCC), 22nF, ±10%, 1kV, X7R, ±10%, SMD 1812; Manufacturer: PSA(Prosperity Dielectrics); Manufacturer Part Number: FV43X223K102EGG; Package Size: 1812; JLCPCB Basic Part: No; JLCPCB Part Number: C692312; Supplier 1: LCSC; Category: Capacitors - MLCC; Supplier Part Number 1: C692312; Tolerance: ±10%; Voltage Rating: 1kV; Temperature Coefficient: X7R; RoHS: Yes; ComponentLink1Description: Datasheet; ComponentLink1URL: https://wmsc.lcsc.com/wmsc/upload/file/pdf/v2/lcsc/2304140030_PSA-Prosperity-Dielectrics-FV43X223K102EGG_C692312.pdf; ComponentLink2Description: JLCPCB Part URL; ComponentLink2URL: https://jlcpcb.com/partdetail/C692312; ComponentLink3Description: LCSC Part URL; ComponentLink3URL: https://lcsc.com/product-detail/Multilayer-Ceramic-Capacitors-MLCC---SMD-SMT_PSAProsperity-Dielectrics-PSAProsperity-Dielectrics-FV43X223K102EGG_C692312.html
footprint CAP-1812 (1812 (4532M) Capacitor)
pins: 1, 2

## FV43X223K202EGG
designator C?  Capacitance: 22nF  (hidden comment: *)
Capacitor, Ceramic (MLCC), 22nF, ±10%, 2kV, X7R, ±10%, SMD 1812; Manufacturer: PSA(Prosperity Dielectrics); Manufacturer Part Number: FV43X223K202EGG; Package Size: 1812; JLCPCB Basic Part: No; JLCPCB Part Number: C5290328; Supplier 1: LCSC; Category: Capacitors - MLCC; Supplier Part Number 1: C5290328; Tolerance: ±10%; Voltage Rating: 2kV; Temperature Coefficient: X7R; RoHS: Yes; ComponentLink1Description: Datasheet; ComponentLink1URL: https://wmsc.lcsc.com/wmsc/upload/file/pdf/v2/lcsc/2212222008_PSA-Prosperity-Dielectrics-FV43X223K202EGG_C5290328.pdf; ComponentLink2Description: JLCPCB Part URL; ComponentLink2URL: https://jlcpcb.com/partdetail/C5290328; ComponentLink3Description: LCSC Part URL; ComponentLink3URL: https://lcsc.com/product-detail/Multilayer-Ceramic-Capacitors-MLCC---SMD-SMT_PSAProsperity-Dielectrics-PSAProsperity-Dielectrics-FV43X223K202EGG_C5290328.html
footprint CAP-1812 (1812 (4532M) Capacitor)
pins: 1, 2

## FV43X331K202ECG
designator C?  Capacitance: 330pF  (hidden comment: *)
Capacitor, Ceramic (MLCC), 330pF, ±10%, 2kV, X7R, ±10%, SMD 1812; Manufacturer: PSA(Prosperity Dielectrics); Manufacturer Part Number: FV43X331K202ECG; Package Size: 1812; JLCPCB Basic Part: No; JLCPCB Part Number: C692300; Supplier 1: LCSC; Category: Capacitors - MLCC; Supplier Part Number 1: C692300; Tolerance: ±10%; Voltage Rating: 2kV; Temperature Coefficient: X7R; RoHS: Yes; ComponentLink1Description: Datasheet; ComponentLink1URL: https://wmsc.lcsc.com/wmsc/upload/file/pdf/v2/lcsc/2304140030_PSA-Prosperity-Dielectrics-FV43X331K202ECG_C692300.pdf; ComponentLink2Description: JLCPCB Part URL; ComponentLink2URL: https://jlcpcb.com/partdetail/C692300; ComponentLink3Description: LCSC Part URL; ComponentLink3URL: https://lcsc.com/product-detail/Multilayer-Ceramic-Capacitors-MLCC---SMD-SMT_PSAProsperity-Dielectrics-PSAProsperity-Dielectrics-FV43X331K202ECG_C692300.html
footprint CAP-1812 (1812 (4532M) Capacitor)
pins: 1, 2

## FV43X331K302EFG
designator C?  Capacitance: 330pF  (hidden comment: *)
Capacitor, Ceramic (MLCC), 330pF, ±10%, 3kV, X7R, ±10%, SMD 1812; Manufacturer: PSA(Prosperity Dielectrics); Manufacturer Part Number: FV43X331K302EFG; Package Size: 1812; JLCPCB Basic Part: No; JLCPCB Part Number: C5795612; Supplier 1: LCSC; Category: Capacitors - MLCC; Supplier Part Number 1: C5795612; Tolerance: ±10%; Voltage Rating: 3kV; Temperature Coefficient: X7R; RoHS: Yes; ComponentLink1Description: Datasheet; ComponentLink1URL: https://wmsc.lcsc.com/wmsc/upload/file/pdf/v2/lcsc/2305051402_PSA-Prosperity-Dielectrics-FV43X331K302EFG_C5795612.pdf; ComponentLink2Description: JLCPCB Part URL; ComponentLink2URL: https://jlcpcb.com/partdetail/C5795612; ComponentLink3Description: LCSC Part URL; ComponentLink3URL: https://lcsc.com/product-detail/Multilayer-Ceramic-Capacitors-MLCC---SMD-SMT_PSAProsperity-Dielectrics-PSAProsperity-Dielectrics-FV43X331K302EFG_C5795612.html
footprint CAP-1812 (1812 (4532M) Capacitor)
pins: 1, 2

## FV43X332K202EFG
designator C?  Capacitance: 3.3nF  (hidden comment: *)
Capacitor, Ceramic (MLCC), 3.3nF, ±10%, 2kV, X7R, ±10%, SMD 1812; Manufacturer: PSA(Prosperity Dielectrics); Manufacturer Part Number: FV43X332K202EFG; Package Size: 1812; JLCPCB Basic Part: No; JLCPCB Part Number: C382195; Supplier 1: LCSC; Category: Capacitors - MLCC; Supplier Part Number 1: C382195; Tolerance: ±10%; Voltage Rating: 2kV; Temperature Coefficient: X7R; RoHS: Yes; ComponentLink1Description: Datasheet; ComponentLink1URL: https://wmsc.lcsc.com/wmsc/upload/file/pdf/v2/lcsc/2304140030_PSA-Prosperity-Dielectrics-FV43X332K202EFG_C382195.pdf; ComponentLink2Description: JLCPCB Part URL; ComponentLink2URL: https://jlcpcb.com/partdetail/C382195; ComponentLink3Description: LCSC Part URL; ComponentLink3URL: https://lcsc.com/product-detail/Multilayer-Ceramic-Capacitors-MLCC---SMD-SMT_PSAProsperity-Dielectrics-PSAProsperity-Dielectrics-FV43X332K202EFG_C382195.html
footprint CAP-1812 (1812 (4532M) Capacitor)
pins: 1, 2

## FV43X471K202ECG
designator C?  Capacitance: 470pF  (hidden comment: *)
Capacitor, Ceramic (MLCC), 470pF, ±10%, 2kV, X7R, ±10%, SMD 1812; Manufacturer: PSA(Prosperity Dielectrics); Manufacturer Part Number: FV43X471K202ECG; Package Size: 1812; JLCPCB Basic Part: No; JLCPCB Part Number: C692301; Supplier 1: LCSC; Category: Capacitors - MLCC; Supplier Part Number 1: C692301; Tolerance: ±10%; Voltage Rating: 2kV; Temperature Coefficient: X7R; RoHS: Yes; ComponentLink1Description: Datasheet; ComponentLink1URL: https://wmsc.lcsc.com/wmsc/upload/file/pdf/v2/lcsc/2304140030_PSA-Prosperity-Dielectrics-FV43X471K202ECG_C692301.pdf; ComponentLink2Description: JLCPCB Part URL; ComponentLink2URL: https://jlcpcb.com/partdetail/C692301; ComponentLink3Description: LCSC Part URL; ComponentLink3URL: https://lcsc.com/product-detail/Multilayer-Ceramic-Capacitors-MLCC---SMD-SMT_PSAProsperity-Dielectrics-PSAProsperity-Dielectrics-FV43X471K202ECG_C692301.html
footprint CAP-1812 (1812 (4532M) Capacitor)
pins: 1, 2

## FV43X472K102ECG
designator C?  Capacitance: 4.7nF  (hidden comment: *)
Capacitor, Ceramic (MLCC), 4.7nF, ±10%, 1kV, X7R, ±10%, SMD 1812; Manufacturer: PSA(Prosperity Dielectrics); Manufacturer Part Number: FV43X472K102ECG; Package Size: 1812; JLCPCB Basic Part: No; JLCPCB Part Number: C692303; Supplier 1: LCSC; Category: Capacitors - MLCC; Supplier Part Number 1: C692303; Tolerance: ±10%; Voltage Rating: 1kV; Temperature Coefficient: X7R; RoHS: Yes; ComponentLink1Description: Datasheet; ComponentLink1URL: https://wmsc.lcsc.com/wmsc/upload/file/pdf/v2/lcsc/2304140030_PSA-Prosperity-Dielectrics-FV43X472K102ECG_C692303.pdf; ComponentLink2Description: JLCPCB Part URL; ComponentLink2URL: https://jlcpcb.com/partdetail/C692303; ComponentLink3Description: LCSC Part URL; ComponentLink3URL: https://lcsc.com/product-detail/Multilayer-Ceramic-Capacitors-MLCC---SMD-SMT_PSAProsperity-Dielectrics-PSAProsperity-Dielectrics-FV43X472K102ECG_C692303.html
footprint CAP-1812 (1812 (4532M) Capacitor)
pins: 1, 2

## FV43X472K202EFG
designator C?  Capacitance: 4.7nF  (hidden comment: *)
Capacitor, Ceramic (MLCC), 4.7nF, ±10%, 2kV, X7R, ±10%, SMD 1812; Manufacturer: PSA(Prosperity Dielectrics); Manufacturer Part Number: FV43X472K202EFG; Package Size: 1812; JLCPCB Basic Part: No; JLCPCB Part Number: C382194; Supplier 1: LCSC; Category: Capacitors - MLCC; Supplier Part Number 1: C382194; Tolerance: ±10%; Voltage Rating: 2kV; Temperature Coefficient: X7R; RoHS: Yes; ComponentLink1Description: Datasheet; ComponentLink1URL: https://wmsc.lcsc.com/wmsc/upload/file/pdf/v2/lcsc/2304140030_PSA-Prosperity-Dielectrics-FV43X472K202EFG_C382194.pdf; ComponentLink2Description: JLCPCB Part URL; ComponentLink2URL: https://jlcpcb.com/partdetail/C382194; ComponentLink3Description: LCSC Part URL; ComponentLink3URL: https://lcsc.com/product-detail/Multilayer-Ceramic-Capacitors-MLCC---SMD-SMT_PSAProsperity-Dielectrics-PSAProsperity-Dielectrics-FV43X472K202EFG_C382194.html
footprint CAP-1812 (1812 (4532M) Capacitor)
pins: 1, 2

## FV43X473K102EGG
designator C?  Capacitance: 47nF  (hidden comment: *)
Capacitor, Ceramic (MLCC), 47nF, ±10%, 1kV, X7R, ±10%, SMD 1812; Manufacturer: PSA(Prosperity Dielectrics); Manufacturer Part Number: FV43X473K102EGG; Package Size: 1812; JLCPCB Basic Part: No; JLCPCB Part Number: C382193; Supplier 1: LCSC; Category: Capacitors - MLCC; Supplier Part Number 1: C382193; Tolerance: ±10%; Voltage Rating: 1kV; Temperature Coefficient: X7R; RoHS: Yes; ComponentLink1Description: Datasheet; ComponentLink1URL: https://wmsc.lcsc.com/wmsc/upload/file/pdf/v2/lcsc/2304140030_PSA-Prosperity-Dielectrics-FV43X473K102EGG_C382193.pdf; ComponentLink2Description: JLCPCB Part URL; ComponentLink2URL: https://jlcpcb.com/partdetail/C382193; ComponentLink3Description: LCSC Part URL; ComponentLink3URL: https://lcsc.com/product-detail/Multilayer-Ceramic-Capacitors-MLCC---SMD-SMT_PSAProsperity-Dielectrics-PSAProsperity-Dielectrics-FV43X473K102EGG_C382193.html
footprint CAP-1812 (1812 (4532M) Capacitor)
pins: 1, 2

## FV43X562K202EGG
designator C?  Capacitance: 5.6nF  (hidden comment: *)
Capacitor, Ceramic (MLCC), 5.6nF, ±10%, 2kV, ±10%, SMD 1812; Manufacturer: PSA(Prosperity Dielectrics); Manufacturer Part Number: FV43X562K202EGG; Package Size: 1812; JLCPCB Basic Part: No; JLCPCB Part Number: C1021540; Supplier 1: LCSC; Category: Capacitors - MLCC; Supplier Part Number 1: C1021540; Tolerance: ±10%; Voltage Rating: 2kV; RoHS: Yes; ComponentLink1Description: Datasheet; ComponentLink1URL: https://wmsc.lcsc.com/wmsc/upload/file/pdf/v2/lcsc/2304140030_PSA-Prosperity-Dielectrics-FV43X562K202EGG_C1021540.pdf; ComponentLink2Description: JLCPCB Part URL; ComponentLink2URL: https://jlcpcb.com/partdetail/C1021540; ComponentLink3Description: LCSC Part URL; ComponentLink3URL: https://lcsc.com/product-detail/Multilayer-Ceramic-Capacitors-MLCC---SMD-SMT_PSAProsperity-Dielectrics-PSAProsperity-Dielectrics-FV43X562K202EGG_C1021540.html
footprint CAP-1812 (1812 (4532M) Capacitor)
pins: 1, 2

## FV43X681K202ECG
designator C?  Capacitance: 680pF  (hidden comment: *)
Capacitor, Ceramic (MLCC), 680pF, ±10%, 2kV, X7R, ±10%, SMD 1812; Manufacturer: PSA(Prosperity Dielectrics); Manufacturer Part Number: FV43X681K202ECG; Package Size: 1812; JLCPCB Basic Part: No; JLCPCB Part Number: C692302; Supplier 1: LCSC; Category: Capacitors - MLCC; Supplier Part Number 1: C692302; Tolerance: ±10%; Voltage Rating: 2kV; Temperature Coefficient: X7R; RoHS: Yes; ComponentLink1Description: Datasheet; ComponentLink1URL: https://wmsc.lcsc.com/wmsc/upload/file/pdf/v2/lcsc/2304140030_PSA-Prosperity-Dielectrics-FV43X681K202ECG_C692302.pdf; ComponentLink2Description: JLCPCB Part URL; ComponentLink2URL: https://jlcpcb.com/partdetail/C692302; ComponentLink3Description: LCSC Part URL; ComponentLink3URL: https://lcsc.com/product-detail/Multilayer-Ceramic-Capacitors-MLCC---SMD-SMT_PSAProsperity-Dielectrics-PSAProsperity-Dielectrics-FV43X681K202ECG_C692302.html
footprint CAP-1812 (1812 (4532M) Capacitor)
pins: 1, 2

## FV43X681K302EFG
designator C?  Capacitance: 680pF  (hidden comment: *)
Capacitor, Ceramic (MLCC), 680pF, ±10%, 3kV, X7R, ±10%, SMD 1812; Manufacturer: PSA(Prosperity Dielectrics); Manufacturer Part Number: FV43X681K302EFG; Package Size: 1812; JLCPCB Basic Part: No; JLCPCB Part Number: C692311; Supplier 1: LCSC; Category: Capacitors - MLCC; Supplier Part Number 1: C692311; Tolerance: ±10%; Voltage Rating: 3kV; Temperature Coefficient: X7R; RoHS: Yes; ComponentLink1Description: Datasheet; ComponentLink1URL: https://wmsc.lcsc.com/wmsc/upload/file/pdf/v2/lcsc/2304140030_PSA-Prosperity-Dielectrics-FV43X681K302EFG_C692311.pdf; ComponentLink2Description: JLCPCB Part URL; ComponentLink2URL: https://jlcpcb.com/partdetail/C692311; ComponentLink3Description: LCSC Part URL; ComponentLink3URL: https://lcsc.com/product-detail/Multilayer-Ceramic-Capacitors-MLCC---SMD-SMT_PSAProsperity-Dielectrics-PSAProsperity-Dielectrics-FV43X681K302EFG_C692311.html
footprint CAP-1812 (1812 (4532M) Capacitor)
pins: 1, 2

## FV43X682K202EGG
designator C?  Capacitance: 6.8nF  (hidden comment: *)
Capacitor, Ceramic (MLCC), 6.8nF, ±10%, 2kV, X7R, ±10%, SMD 1812; Manufacturer: PSA(Prosperity Dielectrics); Manufacturer Part Number: FV43X682K202EGG; Package Size: 1812; JLCPCB Basic Part: No; JLCPCB Part Number: C443495; Supplier 1: LCSC; Category: Capacitors - MLCC; Supplier Part Number 1: C443495; Tolerance: ±10%; Voltage Rating: 2kV; Temperature Coefficient: X7R; RoHS: Yes; ComponentLink1Description: Datasheet; ComponentLink1URL: https://wmsc.lcsc.com/wmsc/upload/file/pdf/v2/lcsc/2304140030_PSA-Prosperity-Dielectrics-FV43X682K202EGG_C443495.pdf; ComponentLink2Description: JLCPCB Part URL; ComponentLink2URL: https://jlcpcb.com/partdetail/C443495; ComponentLink3Description: LCSC Part URL; ComponentLink3URL: https://lcsc.com/product-detail/Multilayer-Ceramic-Capacitors-MLCC---SMD-SMT_PSAProsperity-Dielectrics-PSAProsperity-Dielectrics-FV43X682K202EGG_C443495.html
footprint CAP-1812 (1812 (4532M) Capacitor)
pins: 1, 2

## GA243DR7E2472MW01L
designator C?  Capacitance: 4.7nF  (hidden comment: *)
Capacitor, Ceramic (MLCC), 4.7nF, ±20%, 250V, X7R, ±20%, SMD 1812; Manufacturer: Murata Electronics; Manufacturer Part Number: GA243DR7E2472MW01L; Package Size: 1812; JLCPCB Basic Part: No; JLCPCB Part Number: C237502; Supplier 1: LCSC; Category: Capacitors - MLCC; Supplier Part Number 1: C237502; Tolerance: ±20%; Voltage Rating: 250V; Temperature Coefficient: X7R; RoHS: Yes; ComponentLink1Description: Datasheet; ComponentLink1URL: https://wmsc.lcsc.com/wmsc/upload/file/pdf/v2/lcsc/2001041707_Murata-Electronics-GA243DR7E2472MW01L_C237502.pdf; ComponentLink2Description: JLCPCB Part URL; ComponentLink2URL: https://jlcpcb.com/partdetail/C237502; ComponentLink3Description: LCSC Part URL; ComponentLink3URL: https://lcsc.com/product-detail/Multilayer-Ceramic-Capacitors-MLCC---SMD-SMT_Murata-Electronics-Murata-Electronics-GA243DR7E2472MW01L_C237502.html
footprint CAP-1812 (1812 (4532M) Capacitor)
pins: 1, 2

## GA243DR7E2473MW01L
designator C?  Capacitance: 47nF  (hidden comment: *)
Capacitor, Ceramic (MLCC), 47nF, ±20%, 250V, X7R, ±20%, SMD 1812; Manufacturer: Murata Electronics; Manufacturer Part Number: GA243DR7E2473MW01L; Package Size: 1812; JLCPCB Basic Part: No; JLCPCB Part Number: C161099; Supplier 1: LCSC; Category: Capacitors - MLCC; Supplier Part Number 1: C161099; Tolerance: ±20%; Voltage Rating: 250V; Temperature Coefficient: X7R; RoHS: Yes; ComponentLink1Description: Datasheet; ComponentLink1URL: https://wmsc.lcsc.com/wmsc/upload/file/pdf/v2/lcsc/1808140036_Murata-Electronics-GA243DR7E2473MW01L_C161099.pdf; ComponentLink2Description: JLCPCB Part URL; ComponentLink2URL: https://jlcpcb.com/partdetail/C161099; ComponentLink3Description: LCSC Part URL; ComponentLink3URL: https://lcsc.com/product-detail/Multilayer-Ceramic-Capacitors-MLCC---SMD-SMT_Murata-Electronics-Murata-Electronics-GA243DR7E2473MW01L_C161099.html
footprint CAP-1812 (1812 (4532M) Capacitor)
pins: 1, 2

## GA243QR7E2103MW01L
designator C?  Capacitance: 10nF  (hidden comment: *)
Capacitor, Ceramic (MLCC), 10nF, ±20%, 250V, X7R, ±20%, SMD 1812; Manufacturer: Murata Electronics; Manufacturer Part Number: GA243QR7E2103MW01L; Package Size: 1812; JLCPCB Basic Part: No; JLCPCB Part Number: C437415; Supplier 1: LCSC; Category: Capacitors - MLCC; Supplier Part Number 1: C437415; Tolerance: ±20%; Voltage Rating: 250V; Temperature Coefficient: X7R; RoHS: Yes; ComponentLink1Description: Datasheet; ComponentLink1URL: https://wmsc.lcsc.com/wmsc/upload/file/pdf/v2/lcsc/1912111437_Murata-Electronics-GA243QR7E2103MW01L_C437415.pdf; ComponentLink2Description: JLCPCB Part URL; ComponentLink2URL: https://jlcpcb.com/partdetail/C437415; ComponentLink3Description: LCSC Part URL; ComponentLink3URL: https://lcsc.com/product-detail/Multilayer-Ceramic-Capacitors-MLCC---SMD-SMT_Murata-Electronics-Murata-Electronics-GA243QR7E2103MW01L_C437415.html
footprint CAP-1812 (1812 (4532M) Capacitor)
pins: 1, 2

## GA343DR7GD472KW01L
designator C?  Capacitance: 4.7nF  (hidden comment: *)
Capacitor, Ceramic (MLCC), 4.7nF, ±10%, 250V, X7R, ±10%, SMD 1812; Manufacturer: Murata Electronics; Manufacturer Part Number: GA343DR7GD472KW01L; Package Size: 1812; JLCPCB Basic Part: No; JLCPCB Part Number: C161101; Supplier 1: LCSC; Category: Capacitors - MLCC; Supplier Part Number 1: C161101; Tolerance: ±10%; Voltage Rating: 250V; Temperature Coefficient: X7R; RoHS: Yes; ComponentLink1Description: Datasheet; ComponentLink1URL: https://wmsc.lcsc.com/wmsc/upload/file/pdf/v2/lcsc/1808280517_Murata-Electronics-GA343DR7GD472KW01L_C161101.pdf; ComponentLink2Description: JLCPCB Part URL; ComponentLink2URL: https://jlcpcb.com/partdetail/C161101; ComponentLink3Description: LCSC Part URL; ComponentLink3URL: https://lcsc.com/product-detail/Multilayer-Ceramic-Capacitors-MLCC---SMD-SMT_Murata-Electronics-Murata-Electronics-GA343DR7GD472KW01L_C161101.html
footprint CAP-1812 (1812 (4532M) Capacitor)
pins: 1, 2